# EAGLE library part A6279ELPTR-T (library Allegro_By_element14_Batch_1)
Serial-Input Constant-Current Latched LED Drivers with Open LED Detection
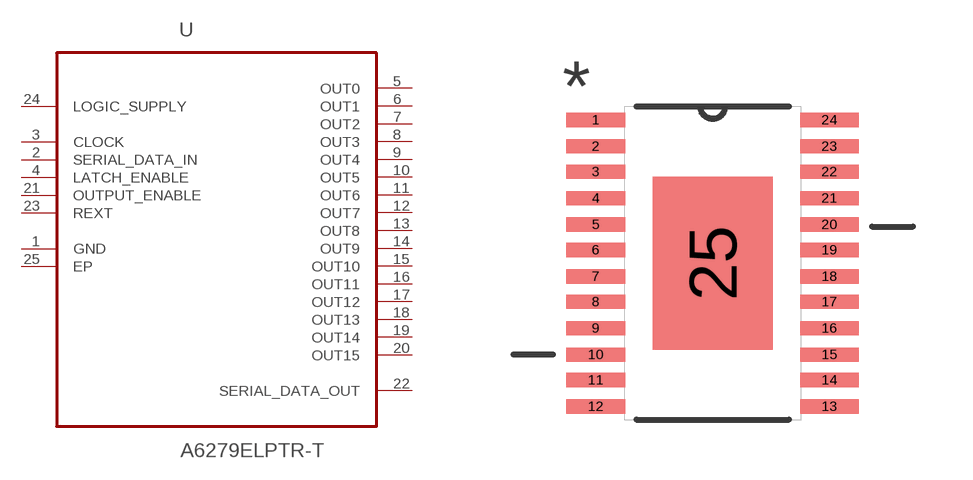
[diagram p22: symbol with the pads of SOP65P640X120-25N; footprint SOP65P640X120-25N]

Designator prefix U

## A6279ELPTR-T (MPN: A6279ELPTR-T; OC_FARNELL: 1812412; OC_NEWARK: 87K3407; PACKAGE: TSSOP-24; SUPPLIER: Allegro)  [SOP65P640X120-25N]
1  GND  pas
2  SERIAL_DATA_IN  in
3  CLOCK  in
4  LATCH_ENABLE  in
5  OUT0  out
6  OUT1  out
7  OUT2  out
8  OUT3  out
9  OUT4  out
10  OUT5  out
11  OUT6  out
12  OUT7  out
13  OUT8  out
14  OUT9  out
15  OUT10  out
16  OUT11  out
17  OUT12  out
18  OUT13  out
19  OUT14  out
20  OUT15  out
21  OUTPUT_ENABLE  in
22  SERIAL_DATA_OUT  out
23  REXT  in
24  LOGIC_SUPPLY  pwr
25  EP  pas

## Footprint SOP65P640X120-25N (pad centres in mm)
smd 1.473 x 0.356: 1 -2.921,3.581; 2 -2.921,2.921; 3 -2.921,2.286; 4 -2.921,1.626; 5 -2.921,0.965; 6 -2.921,0.33; 7 -2.921,-0.33; 8 -2.921,-0.965; 9 -2.921,-1.626; 10 -2.921,-2.286; 11 -2.921,-2.921; 12 -2.921,-3.581; 13 2.921,-3.581; 14 2.921,-2.921; 15 2.921,-2.286; 16 2.921,-1.626; 17 2.921,-0.965; 18 2.921,-0.33; 19 2.921,0.33; 20 2.921,0.965; 21 2.921,1.626; 22 2.921,2.286; 23 2.921,2.921; 24 2.921,3.581
smd 2.997 x 4.318: 25 0,0